# EAGLE library part 23LCXXXX (library Oles komponentbibliotek)
SPI Serial SRAM with SDI and SQI Interface
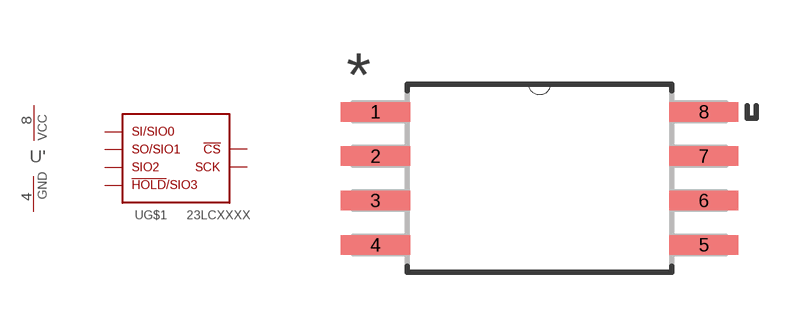
[diagram p52: symbol with the pads of SOIC8; footprint SOIC8]

Designator prefix -; gates G$1=23LCXXXX '=PWRN

## 23LCXXXX  [SOIC8]
1  G$1:!CS
2  G$1:SO/SIO1
3  G$1:SIO2
4  ':GND  pwr
5  G$1:SI/SIO0
6  G$1:SCK
7  G$1:!HOLD!/SIO3
8  ':VCC  pwr

## Footprint SOIC8 (pad centres in mm)
smd 1.981 x 0.559: 1 -4.699,1.905; 2 -4.699,0.635; 3 -4.699,-0.635; 4 -4.699,-1.905; 5 4.699,-1.905; 6 4.699,-0.635; 7 4.699,0.635; 8 4.699,1.905